# EAGLE library part BNO055 (library IC & Transistor)
BNO055, 9DOF IMU with integrated filter for absolute output. Created by: Ober Choo Package: LGA 28 pin Size:3.8 x 5.2mm VDD: 2.4V to 3.6V VDDIO: 1.7V to 3.6V Operating Temperature: -40 ~ 85dC *Need to verify orientation
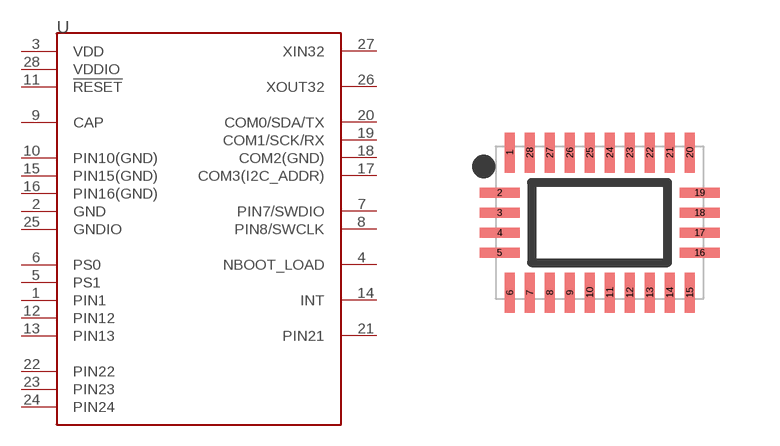
[diagram p30: symbol with the pads of LGA-28; footprint LGA-28]

Designator prefix U

## BNO055LGA (CYTRON-PC: S-IC-BNO055; DESC: 9DOF absolute IMU; MF: BOSCH; MPN: BNO055; REMARK: MOUSER)  [LGA-28]
1  PIN1
2  GND  pwr
3  VDD  pwr
4  NBOOT_LOAD
5  PS1
6  PS0
7  PIN7/SWDIO
8  PIN8/SWCLK
9  CAP
10  PIN10(GND)  pwr
11  !RESET
12  PIN12
13  PIN13
14  INT
15  PIN15(GND)  pwr
16  PIN16(GND)  pwr
17  COM3(I2C_ADDR)
18  COM2(GND)
19  COM1/SCK/RX
20  COM0/SDA/TX
21  PIN21
22  PIN22
23  PIN23
24  PIN24
25  GNDIO
26  XOUT32
27  XIN32
28  VDDIO

## Footprint LGA-28 (pad centres in mm)
LGA-28, Footprint for BNO055 Size: 3.8 x 5.2 mm
smd 0.25 x 1: 1 -2.25,1.75; 6 -2.25,-1.75; 7 -1.75,-1.75; 8 -1.25,-1.75; 9 -0.75,-1.75; 10 -0.25,-1.75; 11 0.25,-1.75; 12 0.75,-1.75; 13 1.25,-1.75; 14 1.75,-1.75; 15 2.25,-1.75; 20 2.25,1.75; 21 1.75,1.75; 22 1.25,1.75; 23 0.75,1.75; 24 0.25,1.75; 25 -0.25,1.75; 26 -0.75,1.75; 27 -1.25,1.75; 28 -1.75,1.75
smd 1 x 0.25: 2 -2.5,0.75; 3 -2.5,0.25; 4 -2.5,-0.25; 5 -2.5,-0.75; 16 2.5,-0.75; 17 2.5,-0.25; 18 2.5,0.25; 19 2.5,0.75